# Altium footprint library MyProject1.PcbLib: 15 footprints
Each footprint in its own frame and in the unit in brackets; x right, y up, seen from the top. Pads: shape width x height; smd on the part's side, far side on the other; paste and mask are expansions set on the pad; w line width, h text height; cw(c..) or ccw(c..) is an arc to the next point about the centre after c.
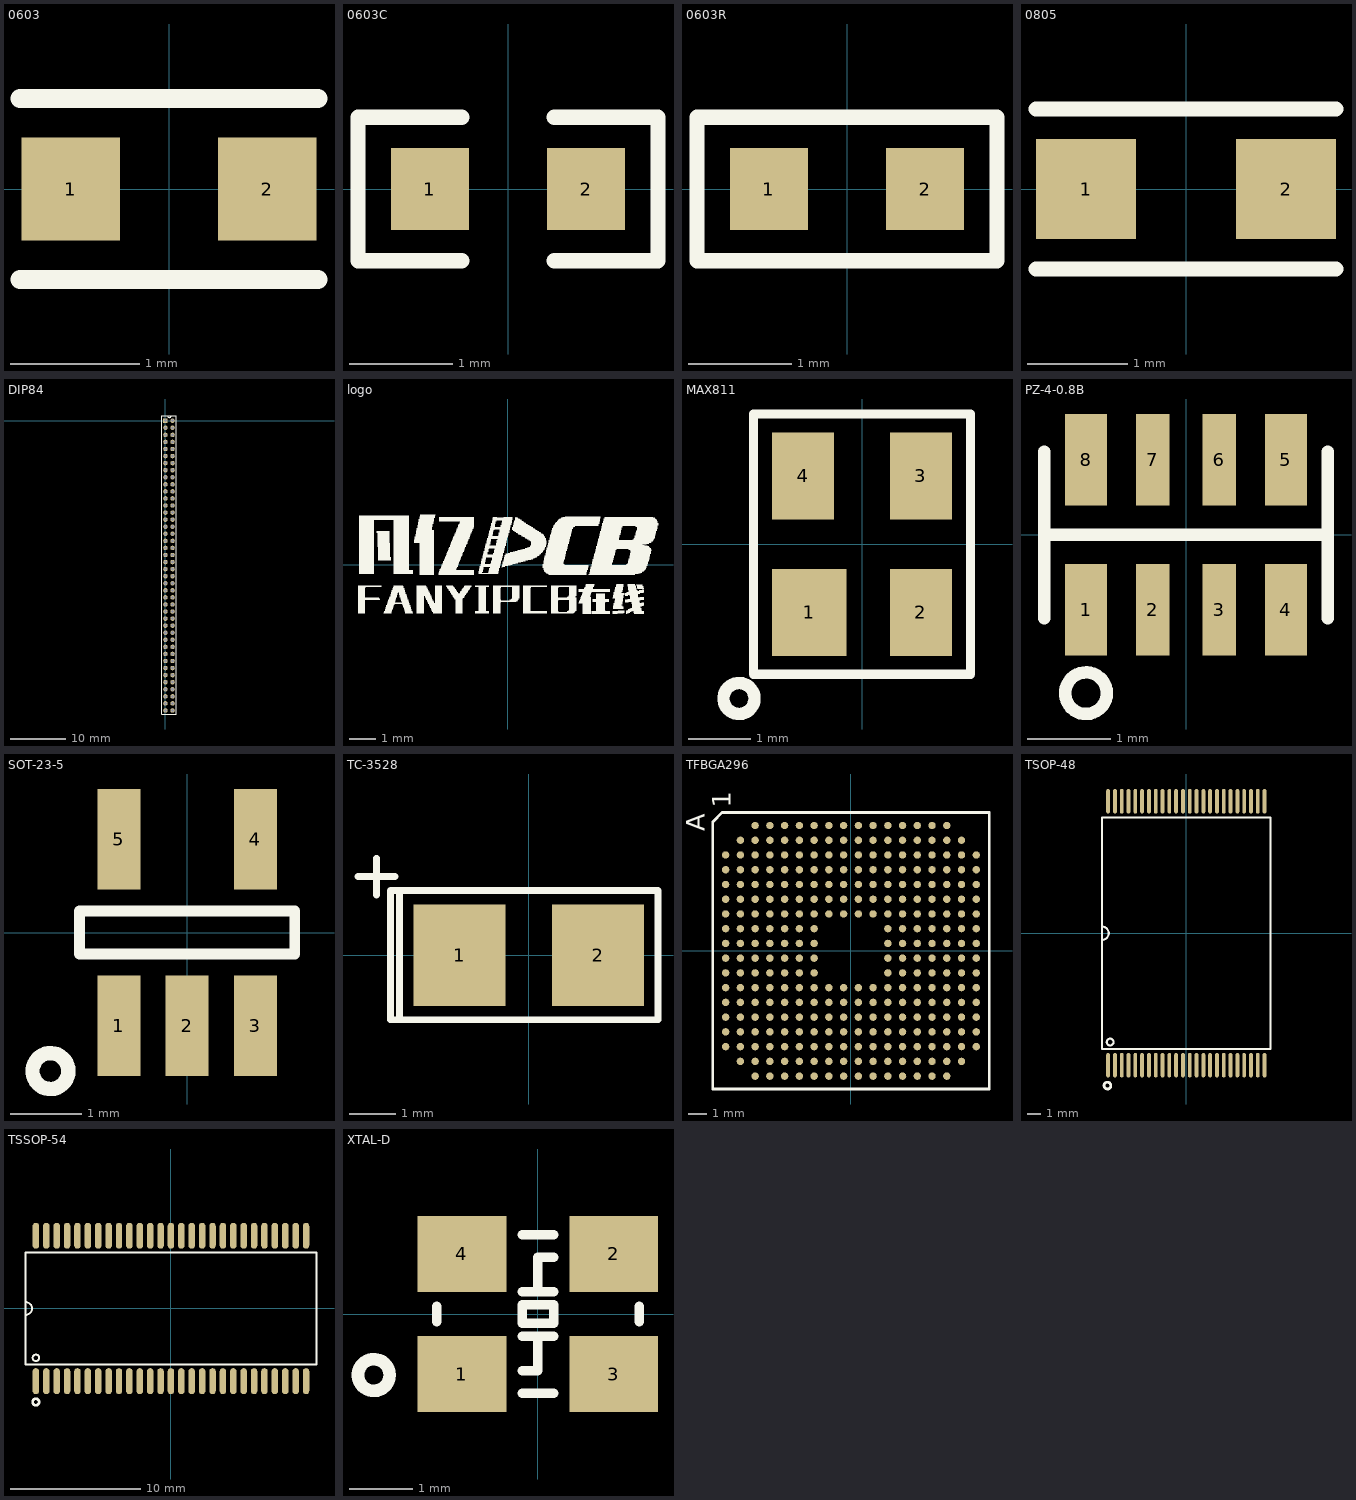
[diagram p0: the footprints below, top view; thin cyan lines are the x and y axes]

## 0603 [mm]
pads (2):
  rect 0.76x0.8 smd: 1(-0.76,0) 2(0.76,0)
Top Overlay:
  lines w0.15: -1.15,-0.7 1.15,-0.7 ; -1.15,0.7 1.15,0.7

## 0603C [mm]
pads (2):
  rect 0.76x0.8 smd: 1(-0.76,0) 2(0.76,0)
Top Overlay:
  lines w0.15: -0.45,-0.7 -1.46,-0.7 -1.46,0.7 -0.45,0.7 ; 0.45,-0.7 1.46,-0.7 1.46,0.7 0.45,0.7

## 0603R [mm]
pads (2):
  rect 0.76x0.8 smd: 1(-0.76,0) 2(0.76,0)
Top Overlay:
  lines w0.15: -1.46,-0.7 -1.46,0.7 1.46,0.7 1.46,-0.7 -1.46,-0.7

## 0805 [mm]
pads (2):
  rect 1x1 smd: 1(-1,0) 2(1,0)
Top Overlay:
  lines w0.15: -1.5,-0.8 1.5,-0.8 ; -1.5,0.8 1.5,0.8

## DIP84 [mm]
pads (84):
  rect 0.8x0.8 hole 0.55: 1(0,0)
  round 0.8 hole 0.55: 2(1.27,0) 3(0,-1.27) 4(1.27,-1.27) 5(0,-2.54) 6(1.27,-2.54) 7(0,-3.81) 8(1.27,-3.81) 9(0,-5.08) 10(1.27,-5.08) 11(0,-6.35) 12(1.27,-6.35) 13(0,-7.62) 14(1.27,-7.62) 15(0,-8.89) 16(1.27,-8.89) 17(0,-10.16) 18(1.27,-10.16) 19(0,-11.43) 20(1.27,-11.43) 21(0,-12.7) 22(1.27,-12.7) 23(0,-13.97) 24(1.27,-13.97) 25(0,-15.24) 26(1.27,-15.24) 27(0,-16.51) 28(1.27,-16.51) 29(0,-17.78) 30(1.27,-17.78) 31(0,-19.05) 32(1.27,-19.05) 33(0,-20.32) 34(1.27,-20.32) 35(0,-21.59) 36(1.27,-21.59) 37(0,-22.86) 38(1.27,-22.86) 39(0,-24.13) 40(1.27,-24.13) 41(0,-25.4) 42(1.27,-25.4) 43(0,-26.67) 44(1.27,-26.67) 45(0,-27.94) 46(1.27,-27.94) 47(0,-29.21) 48(1.27,-29.21) 49(0,-30.48) 50(1.27,-30.48) 51(0,-31.75) 52(1.27,-31.75) 53(0,-33.02) 54(1.27,-33.02) 55(0,-34.29) 56(1.27,-34.29) 57(0,-35.56) 58(1.27,-35.56) 59(0,-36.83) 60(1.27,-36.83) 61(0,-38.1) 62(1.27,-38.1) 63(0,-39.37) 64(1.27,-39.37) 65(0,-40.64) 66(1.27,-40.64) 67(0,-41.91) 68(1.27,-41.91) 69(0,-43.18) 70(1.27,-43.18) 71(0,-44.45) 72(1.27,-44.45) 73(0,-45.72) 74(1.27,-45.72) 75(0,-46.99) 76(1.27,-46.99) 77(0,-48.26) 78(1.27,-48.26) 79(0,-49.53) 80(1.27,-49.53) 81(0,-50.8) 82(1.27,-50.8) 83(0,-52.07) 84(1.27,-52.07)
Top Overlay:
  lines w0.15: 0.381,0.889 ccw(c0.699,0.889) 1.016,0.889 ; -0.635,-52.705 1.905,-52.705 1.905,0.889 -0.635,0.889 -0.635,-52.705

## logo [mm]
Top Overlay:
  drawing of 1471 lines, arcs and shapes, not listed

## MAX811 [mm]
pads (4):
  rect 1.2x1.4 smd: 1(-0.85,-1.1)
  rect 1x1.4 smd: 2(0.95,-1.1) 3(0.95,1.1) 4(-0.95,1.1)
Top Overlay:
  circle w0.2: c-1.985,-2.489 r0.25
  lines w0.15: -1.6,2.1 1.75,2.1 1.75,-2.1 -1.75,-2.1 -1.75,2.1 -1.5,2.1

## PCBComponent_1 [mm]

## PZ-4-0.8B [mm]
pads (8):
  rect 0.5x1.1 smd: 1(-1.2,-0.9) 4(1.2,-0.9) 5(1.2,0.9) 8(-1.2,0.9)
  rect 0.4x1.1 smd: 2(-0.4,-0.9) 3(0.4,-0.9) 6(0.4,0.9) 7(-0.4,0.9)
Top Overlay:
  circle w0.15: c-1.2,-1.9 r0.25
  lines w0.15: -1.7,-1 -1.7,1 ; -1.7,0 1.7,0 ; 1.7,-1 1.7,1

## SOT-23-5 [mm]
pads (5):
  rect 0.6x1.4 smd: 1(-0.95,-1.3) 2(0,-1.3) 3(0.95,-1.3) 4(0.95,1.3) 5(-0.95,1.3)
Top Overlay:
  circle w0.2: c-1.905,-1.931 r0.25
  lines w0.15: -1.5,-0.3 -1.5,0.3 1.5,0.3 1.5,-0.3 -1.5,-0.3

## TC-3528 [mm]
pads (2):
  rect 2x2.2 smd: 1(-1.5,0) 2(1.5,0)
Top Overlay:
  lines w0.15: -3.7,1.7 -2.9,1.7 ; -3.3,1.3 -3.3,2.1 ; -2.8,-1.4 2.8,-1.4 2.8,1.4 -2.8,1.4 ; -2.8,-1.4 -2.8,1.4 ; -2.8,-1.4 -3,-1.4 -3,1.4 -2.8,1.4

## TFBGA296 [mm]
pads (296):
  round 0.4 smd: A3(-5.2,6.8) A4(-4.4,6.8) A5(-3.6,6.8) A6(-2.8,6.8) A7(-2,6.8) A8(-1.2,6.8) A9(-0.4,6.8) A10(0.4,6.8) A11(1.2,6.8) A12(2,6.8) A13(2.8,6.8) A14(3.6,6.8) A15(4.4,6.8) A16(5.2,6.8) B2(-6,6) B3(-5.2,6) B4(-4.4,6) B5(-3.6,6) B6(-2.8,6) B7(-2,6) B8(-1.2,6) B9(-0.4,6) B10(0.4,6) B11(1.2,6) B12(2,6) B13(2.8,6) B14(3.6,6) B15(4.4,6) B16(5.2,6) B17(6,6) C1(-6.8,5.2) C2(-6,5.2) C3(-5.2,5.2) C4(-4.4,5.2) C5(-3.6,5.2) C6(-2.8,5.2) C7(-2,5.2) C8(-1.2,5.2) C9(-0.4,5.2) C10(0.4,5.2) C11(1.2,5.2) C12(2,5.2) C13(2.8,5.2) C14(3.6,5.2) C15(4.4,5.2) C16(5.2,5.2) C17(6,5.2) C18(6.8,5.2) D1(-6.8,4.4) D2(-6,4.4) D3(-5.2,4.4) D4(-4.4,4.4) D5(-3.6,4.4) D6(-2.8,4.4) D7(-2,4.4) D8(-1.2,4.4) D9(-0.4,4.4) D10(0.4,4.4) D11(1.2,4.4) D12(2,4.4) D13(2.8,4.4) D14(3.6,4.4) D15(4.4,4.4) D16(5.2,4.4) D17(6,4.4) D18(6.8,4.4) E1(-6.8,3.6) E2(-6,3.6) E3(-5.2,3.6) E4(-4.4,3.6) E5(-3.6,3.6) E6(-2.8,3.6) E7(-2,3.6) E8(-1.2,3.6) E9(-0.4,3.6) E10(0.4,3.6) E11(1.2,3.6) E12(2,3.6) E13(2.8,3.6) E14(3.6,3.6) E15(4.4,3.6) E16(5.2,3.6) E17(6,3.6) E18(6.8,3.6) F1(-6.8,2.8) F2(-6,2.8) F3(-5.2,2.8) F4(-4.4,2.8) F5(-3.6,2.8) F6(-2.8,2.8) F7(-2,2.8) F8(-1.2,2.8) F9(-0.4,2.8) F10(0.4,2.8) F11(1.2,2.8) F12(2,2.8) F13(2.8,2.8) F14(3.6,2.8) F15(4.4,2.8) F16(5.2,2.8) F17(6,2.8) F18(6.8,2.8) G1(-6.8,2) G2(-6,2) G3(-5.2,2) G4(-4.4,2) G5(-3.6,2) G6(-2.8,2) G7(-2,2) G8(-1.2,2) G9(-0.4,2) G10(0.4,2) G11(1.2,2) G12(2,2) G13(2.8,2) G14(3.6,2) G15(4.4,2) G16(5.2,2) G17(6,2) G18(6.8,2) H1(-6.8,1.2) H2(-6,1.2) H3(-5.2,1.2) H4(-4.4,1.2) H5(-3.6,1.2) H6(-2.8,1.2) H7(-2,1.2) H12(2,1.2) H13(2.8,1.2) H14(3.6,1.2) H15(4.4,1.2) H16(5.2,1.2) H17(6,1.2) H18(6.8,1.2) J1(-6.8,0.4) J2(-6,0.4) J3(-5.2,0.4) J4(-4.4,0.4) J5(-3.6,0.4) J6(-2.8,0.4) J7(-2,0.4) J12(2,0.4) J13(2.8,0.4) J14(3.6,0.4) J15(4.4,0.4) J16(5.2,0.4) J17(6,0.4) J18(6.8,0.4) K1(-6.8,-0.4) K2(-6,-0.4) K3(-5.2,-0.4) K4(-4.4,-0.4) K5(-3.6,-0.4) K6(-2.8,-0.4) K7(-2,-0.4) K12(2,-0.4) K13(2.8,-0.4) K14(3.6,-0.4) K15(4.4,-0.4) K16(5.2,-0.4) K17(6,-0.4) K18(6.8,-0.4) L1(-6.8,-1.2) L2(-6,-1.2) L3(-5.2,-1.2) L4(-4.4,-1.2) L5(-3.6,-1.2) L6(-2.8,-1.2) L7(-2,-1.2) L12(2,-1.2) L13(2.8,-1.2) L14(3.6,-1.2) L15(4.4,-1.2) L16(5.2,-1.2) L17(6,-1.2) L18(6.8,-1.2) M1(-6.8,-2) M2(-6,-2) M3(-5.2,-2) M4(-4.4,-2) M5(-3.6,-2) M6(-2.8,-2) M7(-2,-2) M8(-1.2,-2) M9(-0.4,-2) M10(0.4,-2) M11(1.2,-2) M12(2,-2) M13(2.8,-2) M14(3.6,-2) M15(4.4,-2) M16(5.2,-2) M17(6,-2) M18(6.8,-2) N1(-6.8,-2.8) N2(-6,-2.8) N3(-5.2,-2.8) N4(-4.4,-2.8) N5(-3.6,-2.8) N6(-2.8,-2.8) N7(-2,-2.8) N8(-1.2,-2.8) N9(-0.4,-2.8) N10(0.4,-2.8) N11(1.2,-2.8) N12(2,-2.8) N13(2.8,-2.8) N14(3.6,-2.8) N15(4.4,-2.8) N16(5.2,-2.8) N17(6,-2.8) N18(6.8,-2.8) P1(-6.8,-3.6) P2(-6,-3.6) P3(-5.2,-3.6) P4(-4.4,-3.6) P5(-3.6,-3.6) P6(-2.8,-3.6) P7(-2,-3.6) P8(-1.2,-3.6) P9(-0.4,-3.6) P10(0.4,-3.6) P11(1.2,-3.6) P12(2,-3.6) P13(2.8,-3.6) P14(3.6,-3.6) P15(4.4,-3.6) P16(5.2,-3.6) P17(6,-3.6) P18(6.8,-3.6) R1(-6.8,-4.4) R2(-6,-4.4) R3(-5.2,-4.4) R4(-4.4,-4.4) R5(-3.6,-4.4) R6(-2.8,-4.4) R7(-2,-4.4) R8(-1.2,-4.4) R9(-0.4,-4.4) R10(0.4,-4.4) R11(1.2,-4.4) R12(2,-4.4) R13(2.8,-4.4) R14(3.6,-4.4) R15(4.4,-4.4) R16(5.2,-4.4) R17(6,-4.4) R18(6.8,-4.4) T1(-6.8,-5.2) T2(-6,-5.2) T3(-5.2,-5.2) T4(-4.4,-5.2) T5(-3.6,-5.2) T6(-2.8,-5.2) T7(-2,-5.2) T8(-1.2,-5.2) T9(-0.4,-5.2) T10(0.4,-5.2) T11(1.2,-5.2) T12(2,-5.2) T13(2.8,-5.2) T14(3.6,-5.2) T15(4.4,-5.2) T16(5.2,-5.2) T17(6,-5.2) T18(6.8,-5.2) U2(-6,-6) U3(-5.2,-6) U4(-4.4,-6) U5(-3.6,-6) U6(-2.8,-6) U7(-2,-6) U8(-1.2,-6) U9(-0.4,-6) U10(0.4,-6) U11(1.2,-6) U12(2,-6) U13(2.8,-6) U14(3.6,-6) U15(4.4,-6) U16(5.2,-6) U17(6,-6) V3(-5.2,-6.8) V4(-4.4,-6.8) V5(-3.6,-6.8) V6(-2.8,-6.8) V7(-2,-6.8) V8(-1.2,-6.8) V9(-0.4,-6.8) V10(0.4,-6.8) V11(1.2,-6.8) V12(2,-6.8) V13(2.8,-6.8) V14(3.6,-6.8) V15(4.4,-6.8) V16(5.2,-6.8)
Top Overlay:
  lines w0.15: -7.5,-7.5 7.5,-7.5 7.5,7.5 -7,7.5 -7.5,7 -7.5,-7.5
  text "A" at -7.931,6.494 h1.02
  text "1" at -6.534,7.764 h1.02

## TSOP-48 [mm]
pads (48):
  oval 0.28x1.8 smd: 1(-5.75,-9.7) 2(-5.25,-9.7) 3(-4.75,-9.7) 4(-4.25,-9.7) 5(-3.75,-9.7) 6(-3.25,-9.7) 7(-2.75,-9.7) 8(-2.25,-9.7) 9(-1.75,-9.7) 10(-1.25,-9.7) 11(-0.75,-9.7) 12(-0.25,-9.7) 13(0.25,-9.7) 14(0.75,-9.7) 15(1.25,-9.7) 16(1.75,-9.7) 17(2.25,-9.7) 18(2.75,-9.7) 19(3.25,-9.7) 20(3.75,-9.7) 21(4.25,-9.7) 22(4.75,-9.7) 23(5.25,-9.7) 24(5.75,-9.7) 25(5.75,9.7) 26(5.25,9.7) 27(4.75,9.7) 28(4.25,9.7) 29(3.75,9.7) 30(3.25,9.7) 31(2.75,9.7) 32(2.25,9.7) 33(1.75,9.7) 34(1.25,9.7) 35(0.75,9.7) 36(0.25,9.7) 37(-0.25,9.7) 38(-0.75,9.7) 39(-1.25,9.7) 40(-1.75,9.7) 41(-2.25,9.7) 42(-2.75,9.7) 43(-3.25,9.7) 44(-3.75,9.7) 45(-4.25,9.7) 46(-4.75,9.7) 47(-5.25,9.7) 48(-5.75,9.7)
Top Overlay:
  circle w0.15: c-5.6,-8 r0.25
  circle w0.2: c-5.8,-11.2 r0.25
  lines w0.15: -6.2,-0.5 ccw(c-6.2,0) -6.2,0.5 ; -6.2,-8.5 -6.2,8.5 6.2,8.5 6.2,-8.5 -6.2,-8.5

## TSSOP-54 [mm]
pads (54):
  oval 0.5x2 smd: 1(-10.4,-5.6) 2(-9.6,-5.6) 3(-8.8,-5.6) 4(-8,-5.6) 5(-7.2,-5.6) 6(-6.4,-5.6) 7(-5.6,-5.6) 8(-4.8,-5.6) 9(-4,-5.6) 10(-3.2,-5.6) 11(-2.4,-5.6) 12(-1.6,-5.6) 13(-0.8,-5.6) 14(0,-5.6) 15(0.8,-5.6) 16(1.6,-5.6) 17(2.4,-5.6) 18(3.2,-5.6) 19(4,-5.6) 20(4.8,-5.6) 21(5.6,-5.6) 22(6.4,-5.6) 23(7.2,-5.6) 24(8,-5.6) 25(8.8,-5.6) 26(9.6,-5.6) 27(10.4,-5.6) 28(10.4,5.6) 29(9.6,5.6) 30(8.8,5.6) 31(8,5.6) 32(7.2,5.6) 33(6.4,5.6) 34(5.6,5.6) 35(4.8,5.6) 36(4,5.6) 37(3.2,5.6) 38(2.4,5.6) 39(1.6,5.6) 40(0.8,5.6) 41(0,5.6) 42(-0.8,5.6) 43(-1.6,5.6) 44(-2.4,5.6) 45(-3.2,5.6) 46(-4,5.6) 47(-4.8,5.6) 48(-5.6,5.6) 49(-6.4,5.6) 50(-7.2,5.6) 51(-8,5.6) 52(-8.8,5.6) 53(-9.6,5.6) 54(-10.4,5.6)
Top Overlay:
  circle w0.2: c-10.4,-7.2 r0.25
  circle w0.15: c-10.4,-3.8 r0.25
  lines w0.15: -11.2,-0.5 ccw(c-11.2,0) -11.2,0.5 ; -11.2,-4.3 11.2,-4.3 11.2,4.3 -11.2,4.3 -11.2,-4.3

## XTAL-D [mm]
pads (4):
  rect 1.4x1.2 smd: 1(-1.2,-0.95) 2(1.2,0.95) 3(1.2,-0.95) 4(-1.2,0.95)
Top Overlay:
  circle w0.2: c-2.595,-0.965 r0.25
  lines w0.15: -1.6,-0.12 -1.6,0.12 ; -0.25,-1.25 0.25,-1.25 ; -0.25,-0.9 0,-0.9 0,-0.35 ; -0.25,-0.35 0.25,-0.35 ; -0.25,0.35 0.25,0.35 ; -0.25,1.25 0.25,1.25 ; 0,0.35 0,0.9 0.25,0.9 ; 1.6,-0.12 1.6,0.12 ; -0.25,-0.15 -0.25,0.15 0.25,0.15 0.25,-0.15 -0.25,-0.15